# EAGLE library part LM2673S-5.0 (library brewbox-components)
Step-Down Voltage Regulator
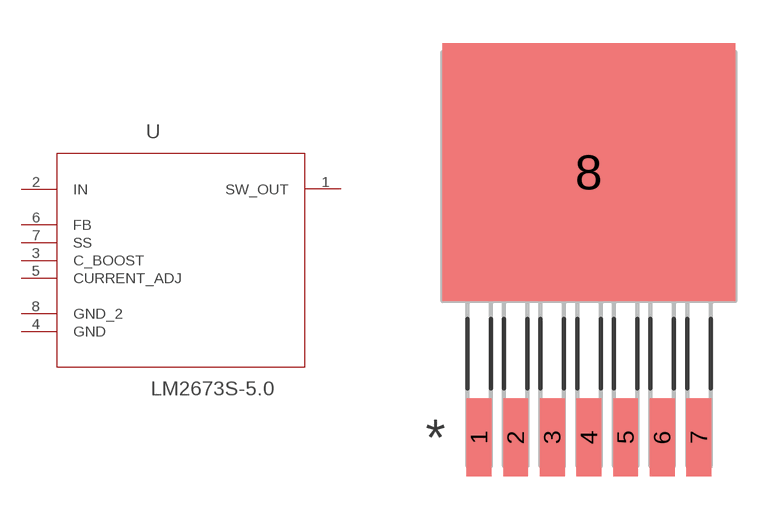
[diagram p15: symbol with the pads of TO127P1435X457-8N; footprint TO127P1435X457-8N]

Designator prefix U

## LM2673S-5.0 (MPN: LM2673S-5.0; OC_FARNELL: 9486178; OC_NEWARK: 41K4093; PACKAGE: TO-236-7; SUPPLIER: National Semiconductors)  [TO127P1435X457-8N]
1  SW_OUT  out
2  IN  pwr
3  C_BOOST  in
4  GND  pas
5  CURRENT_ADJ  in
6  FB  in
7  SS  in
8  GND_2  pas

## Footprint TO127P1435X457-8N (pad centres in mm)
smd 0.864 x 2.692: 1 -3.81,-9.042; 2 -2.54,-9.042; 3 -1.27,-9.042; 4 0,-9.042; 5 1.27,-9.042; 6 2.54,-9.042; 7 3.81,-9.042
smd 10.16 x 8.941: 8 0,0.152